# EAGLE library part MCP73855-I_MF (library SamacSys_Parts)
Li-Ion Charge Controller USB Temp. DFN10 Source: Datasheet <http://ww1.microchip.com/downloads/en/DeviceDoc/21915C.pdf>
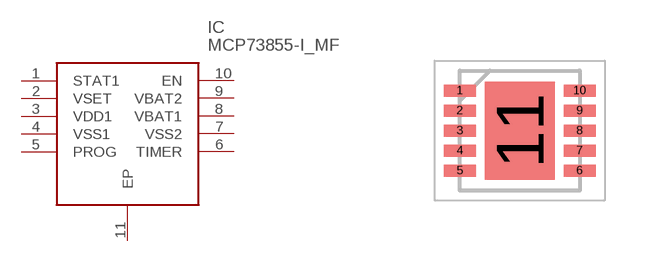
[diagram p17: symbol with the pads of SON50P300X300X100-11N; footprint SON50P300X300X100-11N]

Designator prefix IC

## MCP73855-I_MF (DESCRIPTION: Li-Ion Charge Controller USB Temp. DFN10; HEIGHT: 1mm; MANUFACTURER_NAME: Microchip; MANUFACTURER_PART_NUMBER: MCP73855-I/MF; MOUSER_PART_NUMBER: 579-MCP73855-I/MF; MOUSER_PRICE-STOCK: https://www.mouser.com/Search/Refine.aspx?Keyword=579-MCP73855-I%2FMF)  [SON50P300X300X100-11N]
1  STAT1
2  VSET
3  VDD1
4  VSS1
5  PROG
6  TIMER
7  VSS2
8  VBAT1
9  VBAT2
10  EN
11  EP

## Footprint SON50P300X300X100-11N (pad centres in mm)
(MF)10-Lead(DFN)+
smd 0.8 x 0.3: 1 -1.5,1; 2 -1.5,0.5; 3 -1.5,0; 4 -1.5,-0.5; 5 -1.5,-1; 6 1.5,-1; 7 1.5,-0.5; 8 1.5,0; 9 1.5,0.5; 10 1.5,1
smd 1.75 x 2.45: 11 0,0